# Altium schematic symbol library kmilo17pet-LT_OpAmp_LT1000.SchLib: 2280 symbols (part 24 of 79)
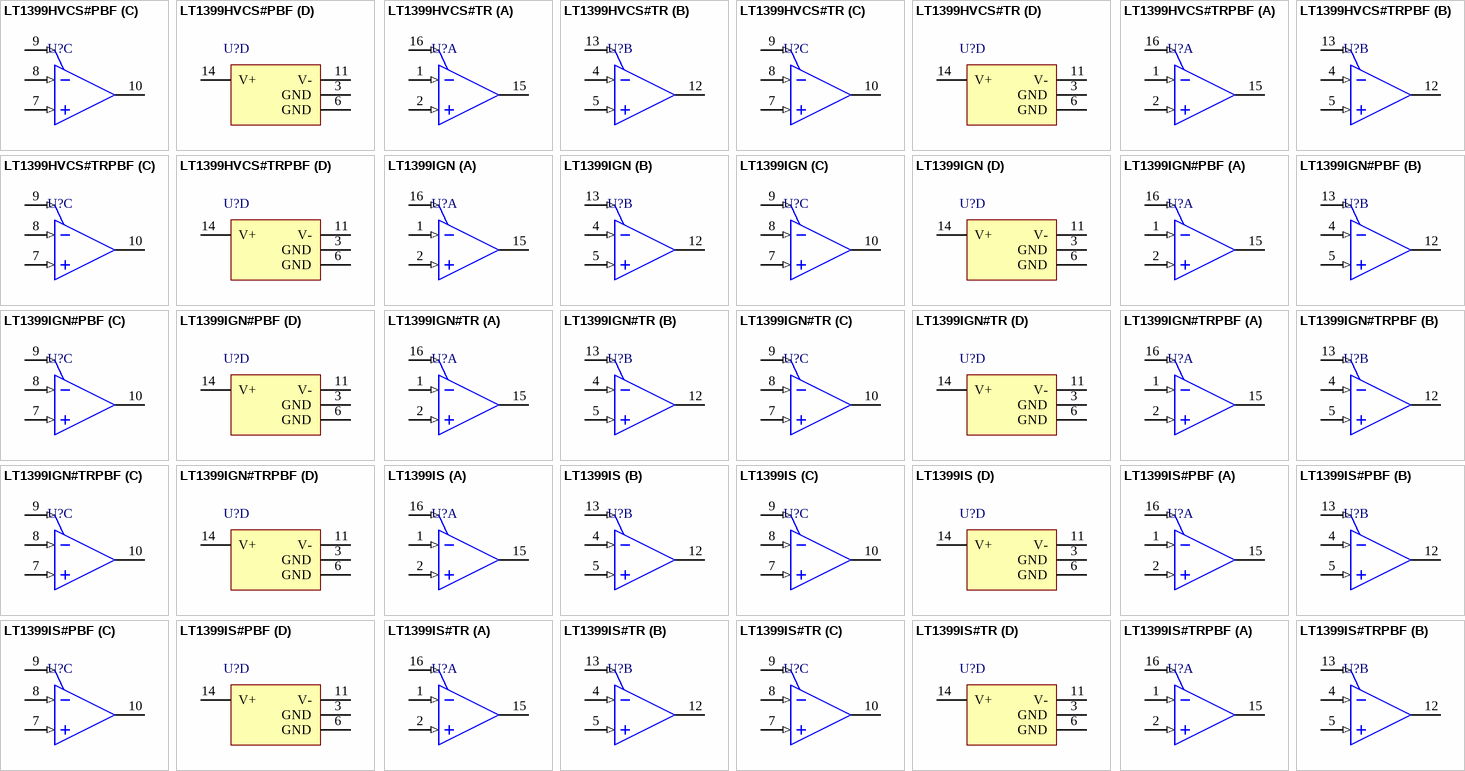
[diagram p128: symbols LT1399HVCS#PBF to LT1399IS#TRPBF]

## LT1399IGN#TRPBF
designator U?
3 Channel, Operational Amplifier, 0.1 dB Gain Flatness to 150 MHz, 300 MHz Typical GBW, 800 V/us Typical SR, 3 to 12.6 V, 16-Pin SOP (GN-16), Industrial, Pb-Free, Reel; Linear Technology Part Number: LT1399; Manufacturer: Linear Technology; PartNumber: LT1399IGN#TRPBF; Channels (#): 3; GBW (MHz) Typical: 300; Is (mA) Typical: 4.6; SR (V/us) Typical: 800; Vos (mV) Typical: 1.5; Vs Max (V): 12.6; DatasheetVersion: Rev. A; PackageVersion: Rev B; PackageReference: LT-GN-16; PackageDescription: 16-Lead Plastic SSOP, Body 4.9 x 3.9 mm, Pitch 0.635 mm; Supplier 1: Digi-Key; Supplier Part Number 1: LT1399IGN#TRPBF-ND; Packing: Reel; RoHS: Pb-Free; Type: CFA; Vs Min (V): 3; Mounting Technology: Surface Mount; ComponentLink1Description: Manufacturer URL; ComponentLink1URL: http://www.linear.com/; ComponentLink2Description: Datasheet; ComponentLink2URL: http://cds.linear.com/docs/en/datasheet/13989fa.pdf; ComponentLink3Description: Package Specification; ComponentLink3URL: http://cds.linear.com/docs/en/packaging/05081641_B_GN16.pdf
footprint LT-GN-16_N (SOP, 16-Leads, Body 4.9x3.9mm, Pitch 0.635mm, IPC Medium Density)
footprint LT-GN-16_L (SOP, 16-Leads, Body 4.9x3.9mm, Pitch 0.635mm, IPC High Density)
footprint LT-GN-16_M (SOP, 16-Leads, Body 4.9x3.9mm, Pitch 0.635mm, IPC Low Density)
part A pins: 1 -IN R (in) "Inverting Input of R Channel Amplifier.", 2 +IN R (in) "Noninverting Input of R Channel Amplifier.", 15 OUT R (hiz) "R Channel Output.", 16 ~{EN} R (in) "R Channel Enable Pin. Logic low to enable."
part B pins: 4 -IN G (in) "Inverting Input of G Channel Amplifier.", 5 +IN G (in) "Noninverting Input of G Channel Amplifier.", 12 OUT G (hiz) "G Channel Output.", 13 ~{EN} G (in) "G Channel Enable Pin. Logic low to enable."
part C pins: 7 +IN B (in) "Noninverting Input of B Channel Amplifier.", 8 -IN B (in) "Inverting Input of B Channel Amplifier.", 9 ~{EN} B (in) "B Channel Enable Pin. Logic low to enable.", 10 OUT B (hiz) "B Channel Output."
part D pins: 3 GND (power) "Ground. Not connected internally.", 6 GND (power) "Ground. Not connected internally.", 11 V- (power) "Negative Supply Voltage, Usually -5V.", 14 V+ (power) "Positive Supply Voltage, Usually 5V."

## LT1399IS
designator U?
3 Channel, Operational Amplifier, 0.1 dB Gain Flatness to 150 MHz, 300 MHz Typical GBW, 800 V/us Typical SR, 3 to 12.6 V, 16-Pin SOIC (S-16), Industrial; Linear Technology Part Number: LT1399; Manufacturer: Linear Technology; PartNumber: LT1399IS; Channels (#): 3; GBW (MHz) Typical: 300; Is (mA) Typical: 4.6; SR (V/us) Typical: 800; Vos (mV) Typical: 1.5; Vs Max (V): 12.6; DatasheetVersion: Rev. A; PackageVersion: Rev G; PackageReference: LT-S-16; PackageDescription: 16-Lead Plastic Small Outline, Body 9.9 x 3.9 mm, Pitch 1.27 mm; Supplier 1: Digi-Key; Supplier Part Number 1: LT1399IS-ND; Type: CFA; Vs Min (V): 3; Mounting Technology: Surface Mount; ComponentLink1Description: Manufacturer URL; ComponentLink1URL: http://www.linear.com/; ComponentLink2Description: Datasheet; ComponentLink2URL: http://cds.linear.com/docs/en/datasheet/13989fa.pdf; ComponentLink3Description: Package Specification; ComponentLink3URL: http://cds.linear.com/docs/en/packaging/S16%2005-08-1610%20Rev%20G.pdf
footprint LT-S-16_N (SOP, 16-Leads, Body 9.9x3.9mm, Pitch 1.27mm, IPC Medium Density)
footprint LT-S-16_L (SOP, 16-Leads, Body 9.9x3.9mm, Pitch 1.27mm, IPC High Density)
footprint LT-S-16_M (SOP, 16-Leads, Body 9.9x3.9mm, Pitch 1.27mm, IPC Low Density)
part A pins: 1 -IN R (in) "Inverting Input of R Channel Amplifier.", 2 +IN R (in) "Noninverting Input of R Channel Amplifier.", 15 OUT R (hiz) "R Channel Output.", 16 ~{EN} R (in) "R Channel Enable Pin. Logic low to enable."
part B pins: 4 -IN G (in) "Inverting Input of G Channel Amplifier.", 5 +IN G (in) "Noninverting Input of G Channel Amplifier.", 12 OUT G (hiz) "G Channel Output.", 13 ~{EN} G (in) "G Channel Enable Pin. Logic low to enable."
part C pins: 7 +IN B (in) "Noninverting Input of B Channel Amplifier.", 8 -IN B (in) "Inverting Input of B Channel Amplifier.", 9 ~{EN} B (in) "B Channel Enable Pin. Logic low to enable.", 10 OUT B (hiz) "B Channel Output."
part D pins: 3 GND (power) "Ground. Not connected internally.", 6 GND (power) "Ground. Not connected internally.", 11 V- (power) "Negative Supply Voltage, Usually -5V.", 14 V+ (power) "Positive Supply Voltage, Usually 5V."

## LT1399IS#PBF
designator U?
3 Channel, Operational Amplifier, 0.1 dB Gain Flatness to 150 MHz, 300 MHz Typical GBW, 800 V/us Typical SR, 3 to 12.6 V, 16-Pin SOIC (S-16), Industrial, Pb-Free; Linear Technology Part Number: LT1399; Manufacturer: Linear Technology; PartNumber: LT1399IS#PBF; Channels (#): 3; GBW (MHz) Typical: 300; Is (mA) Typical: 4.6; SR (V/us) Typical: 800; Vos (mV) Typical: 1.5; Vs Max (V): 12.6; DatasheetVersion: Rev. A; PackageVersion: Rev G; PackageReference: LT-S-16; PackageDescription: 16-Lead Plastic Small Outline, Body 9.9 x 3.9 mm, Pitch 1.27 mm; Supplier 1: Digi-Key; Supplier Part Number 1: LT1399IS#PBF-ND; RoHS: Pb-Free; Type: CFA; Vs Min (V): 3; Mounting Technology: Surface Mount; ComponentLink1Description: Manufacturer URL; ComponentLink1URL: http://www.linear.com/; ComponentLink2Description: Datasheet; ComponentLink2URL: http://cds.linear.com/docs/en/datasheet/13989fa.pdf; ComponentLink3Description: Package Specification; ComponentLink3URL: http://cds.linear.com/docs/en/packaging/S16%2005-08-1610%20Rev%20G.pdf
footprint LT-S-16_N (SOP, 16-Leads, Body 9.9x3.9mm, Pitch 1.27mm, IPC Medium Density)
footprint LT-S-16_L (SOP, 16-Leads, Body 9.9x3.9mm, Pitch 1.27mm, IPC High Density)
footprint LT-S-16_M (SOP, 16-Leads, Body 9.9x3.9mm, Pitch 1.27mm, IPC Low Density)
part A pins: 1 -IN R (in) "Inverting Input of R Channel Amplifier.", 2 +IN R (in) "Noninverting Input of R Channel Amplifier.", 15 OUT R (hiz) "R Channel Output.", 16 ~{EN} R (in) "R Channel Enable Pin. Logic low to enable."
part B pins: 4 -IN G (in) "Inverting Input of G Channel Amplifier.", 5 +IN G (in) "Noninverting Input of G Channel Amplifier.", 12 OUT G (hiz) "G Channel Output.", 13 ~{EN} G (in) "G Channel Enable Pin. Logic low to enable."
part C pins: 7 +IN B (in) "Noninverting Input of B Channel Amplifier.", 8 -IN B (in) "Inverting Input of B Channel Amplifier.", 9 ~{EN} B (in) "B Channel Enable Pin. Logic low to enable.", 10 OUT B (hiz) "B Channel Output."
part D pins: 3 GND (power) "Ground. Not connected internally.", 6 GND (power) "Ground. Not connected internally.", 11 V- (power) "Negative Supply Voltage, Usually -5V.", 14 V+ (power) "Positive Supply Voltage, Usually 5V."

## LT1399IS#TR
designator U?
3 Channel, Operational Amplifier, 0.1 dB Gain Flatness to 150 MHz, 300 MHz Typical GBW, 800 V/us Typical SR, 3 to 12.6 V, 16-Pin SOIC (S-16), Industrial, Reel; Linear Technology Part Number: LT1399; Manufacturer: Linear Technology; PartNumber: LT1399IS#TR; Channels (#): 3; GBW (MHz) Typical: 300; Is (mA) Typical: 4.6; SR (V/us) Typical: 800; Vos (mV) Typical: 1.5; Vs Max (V): 12.6; DatasheetVersion: Rev. A; PackageVersion: Rev G; PackageReference: LT-S-16; PackageDescription: 16-Lead Plastic Small Outline, Body 9.9 x 3.9 mm, Pitch 1.27 mm; Supplier 1: Digi-Key; Supplier Part Number 1: LT1399ISTR-ND; Packing: Reel; Type: CFA; Vs Min (V): 3; Mounting Technology: Surface Mount; ComponentLink1Description: Manufacturer URL; ComponentLink1URL: http://www.linear.com/; ComponentLink2Description: Datasheet; ComponentLink2URL: http://cds.linear.com/docs/en/datasheet/13989fa.pdf; ComponentLink3Description: Package Specification; ComponentLink3URL: http://cds.linear.com/docs/en/packaging/S16%2005-08-1610%20Rev%20G.pdf
footprint LT-S-16_N (SOP, 16-Leads, Body 9.9x3.9mm, Pitch 1.27mm, IPC Medium Density)
footprint LT-S-16_L (SOP, 16-Leads, Body 9.9x3.9mm, Pitch 1.27mm, IPC High Density)
footprint LT-S-16_M (SOP, 16-Leads, Body 9.9x3.9mm, Pitch 1.27mm, IPC Low Density)
part A pins: 1 -IN R (in) "Inverting Input of R Channel Amplifier.", 2 +IN R (in) "Noninverting Input of R Channel Amplifier.", 15 OUT R (hiz) "R Channel Output.", 16 ~{EN} R (in) "R Channel Enable Pin. Logic low to enable."
part B pins: 4 -IN G (in) "Inverting Input of G Channel Amplifier.", 5 +IN G (in) "Noninverting Input of G Channel Amplifier.", 12 OUT G (hiz) "G Channel Output.", 13 ~{EN} G (in) "G Channel Enable Pin. Logic low to enable."
part C pins: 7 +IN B (in) "Noninverting Input of B Channel Amplifier.", 8 -IN B (in) "Inverting Input of B Channel Amplifier.", 9 ~{EN} B (in) "B Channel Enable Pin. Logic low to enable.", 10 OUT B (hiz) "B Channel Output."
part D pins: 3 GND (power) "Ground. Not connected internally.", 6 GND (power) "Ground. Not connected internally.", 11 V- (power) "Negative Supply Voltage, Usually -5V.", 14 V+ (power) "Positive Supply Voltage, Usually 5V."

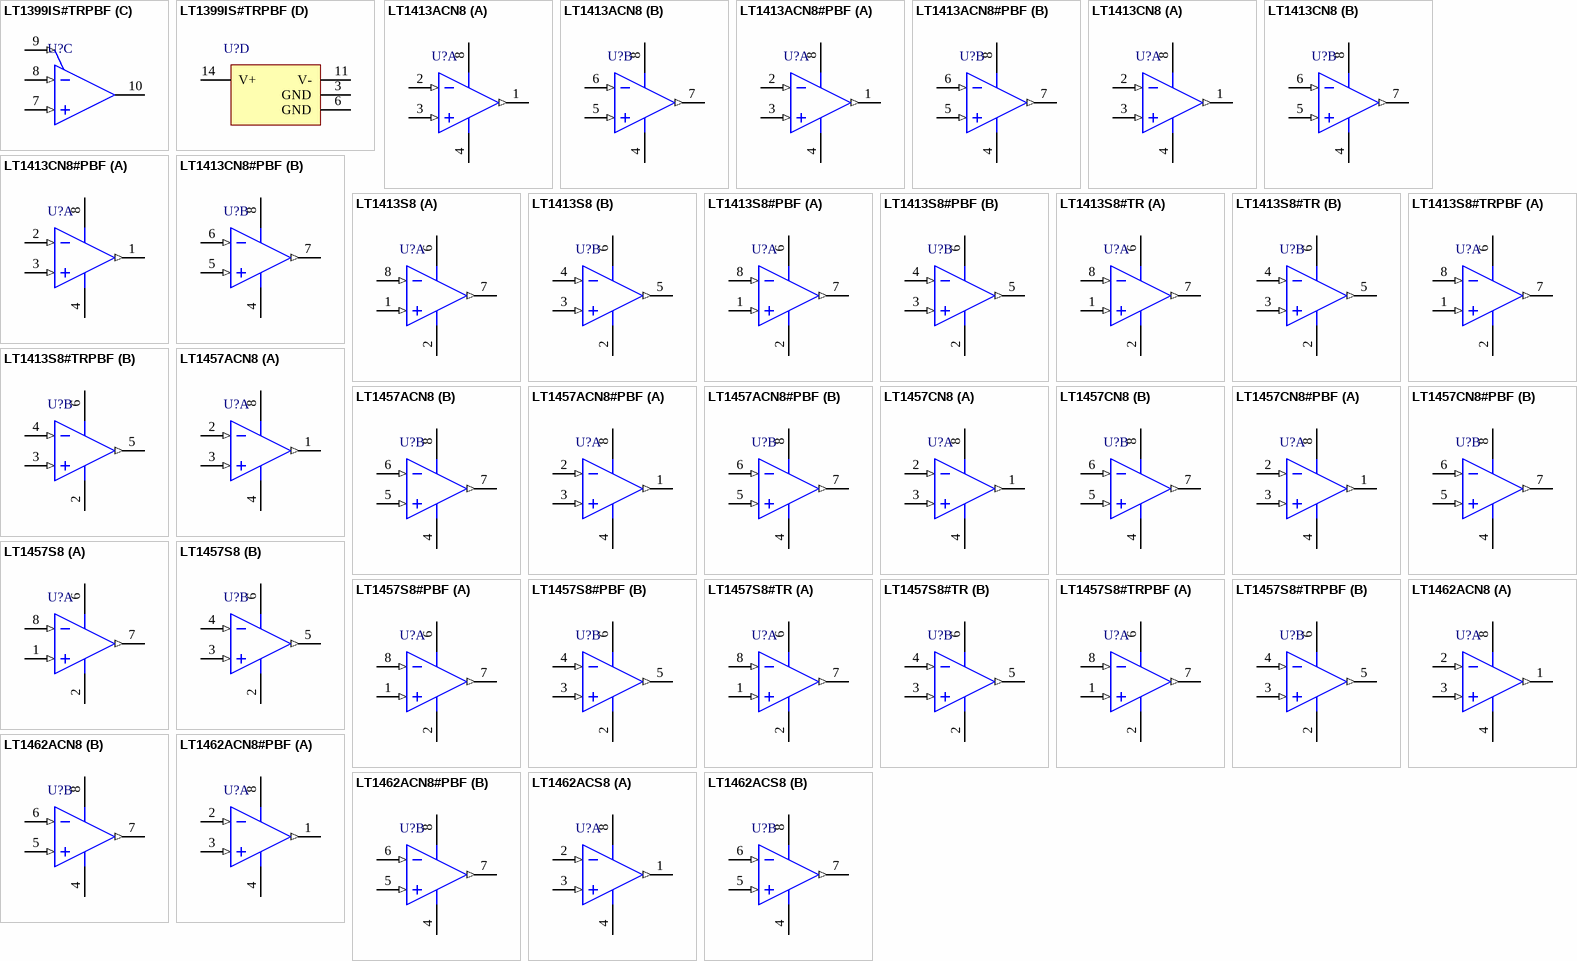
[diagram p38: symbols LT1399IS#TRPBF to LT1462ACS8]

## LT1399IS#TRPBF
designator U?
3 Channel, Operational Amplifier, 0.1 dB Gain Flatness to 150 MHz, 300 MHz Typical GBW, 800 V/us Typical SR, 3 to 12.6 V, 16-Pin SOIC (S-16), Industrial, Pb-Free, Reel; Linear Technology Part Number: LT1399; Manufacturer: Linear Technology; PartNumber: LT1399IS#TRPBF; Channels (#): 3; GBW (MHz) Typical: 300; Is (mA) Typical: 4.6; SR (V/us) Typical: 800; Vos (mV) Typical: 1.5; Vs Max (V): 12.6; DatasheetVersion: Rev. A; PackageVersion: Rev G; PackageReference: LT-S-16; PackageDescription: 16-Lead Plastic Small Outline, Body 9.9 x 3.9 mm, Pitch 1.27 mm; Supplier 1: Digi-Key; Supplier Part Number 1: LT1399IS#TRPBF-ND; Packing: Reel; RoHS: Pb-Free; Type: CFA; Vs Min (V): 3; Mounting Technology: Surface Mount; ComponentLink1Description: Manufacturer URL; ComponentLink1URL: http://www.linear.com/; ComponentLink2Description: Datasheet; ComponentLink2URL: http://cds.linear.com/docs/en/datasheet/13989fa.pdf; ComponentLink3Description: Package Specification; ComponentLink3URL: http://cds.linear.com/docs/en/packaging/S16%2005-08-1610%20Rev%20G.pdf
footprint LT-S-16_N (SOP, 16-Leads, Body 9.9x3.9mm, Pitch 1.27mm, IPC Medium Density)
footprint LT-S-16_L (SOP, 16-Leads, Body 9.9x3.9mm, Pitch 1.27mm, IPC High Density)
footprint LT-S-16_M (SOP, 16-Leads, Body 9.9x3.9mm, Pitch 1.27mm, IPC Low Density)
part A pins: 1 -IN R (in) "Inverting Input of R Channel Amplifier.", 2 +IN R (in) "Noninverting Input of R Channel Amplifier.", 15 OUT R (hiz) "R Channel Output.", 16 ~{EN} R (in) "R Channel Enable Pin. Logic low to enable."
part B pins: 4 -IN G (in) "Inverting Input of G Channel Amplifier.", 5 +IN G (in) "Noninverting Input of G Channel Amplifier.", 12 OUT G (hiz) "G Channel Output.", 13 ~{EN} G (in) "G Channel Enable Pin. Logic low to enable."
part C pins: 7 +IN B (in) "Noninverting Input of B Channel Amplifier.", 8 -IN B (in) "Inverting Input of B Channel Amplifier.", 9 ~{EN} B (in) "B Channel Enable Pin. Logic low to enable.", 10 OUT B (hiz) "B Channel Output."
part D pins: 3 GND (power) "Ground. Not connected internally.", 6 GND (power) "Ground. Not connected internally.", 11 V- (power) "Negative Supply Voltage, Usually -5V.", 14 V+ (power) "Positive Supply Voltage, Usually 5V."

## LT1413ACN8
designator U?
Dual Channel, Precision Single Supply Operational Amplifier, 0.95 MHz Typical GBW, 0.3 V/us Typical SR, 3 to 22 V, 8-Pin DIP (N8-8), Commercial; Linear Technology Part Number: LT1413; Manufacturer: Linear Technology; PartNumber: LT1413ACN8; Channels (#): 2; GBW (MHz) Typical: 0.95; Is (mA) Typical: 0.33; SR (V/us) Typical: 0.3; Vos (mV) Typical: 0.05; Vs Max (V): 22; Vs Min (V): 3; DatasheetVersion: Rev. 0; PackageVersion: Rev I; PackageReference: LT-N8-8; PackageDescription: 8-Lead PDIP, Body 10.16 x 6.48 mm, Pitch 2.54 mm; Supplier 1: Digi-Key; Supplier Part Number 1: LT1413ACN8-ND; Type: VFB; Mounting Technology: Surface Mount; ComponentLink1Description: Manufacturer URL; ComponentLink1URL: http://www.linear.com/; ComponentLink2Description: Datasheet; ComponentLink2URL: http://cds.linear.com/docs/en/datasheet/lt1413.pdf; ComponentLink3Description: Package Specification; ComponentLink3URL: http://cds.linear.com/docs/en/packaging/05081510_I_N8.pdf
footprint LT-N8-8 (DIP, 8-Leads, Body 10.16x6.48mm, Pitch 2.54mm)
pins on every part: 4 V- (power), 8 V+ (power)
part A pins: 1 OUT A (out), 2 -IN A (in), 3 +IN A (in)
part B pins: 5 +IN B (in), 6 -IN B (in), 7 OUT B (out)

## LT1413ACN8#PBF
designator U?
Dual Channel, Precision Single Supply Operational Amplifier, 0.95 MHz Typical GBW, 0.3 V/us Typical SR, 3 to 22 V, 8-Pin DIP (N8-8), Commercial, Pb-Free; Linear Technology Part Number: LT1413; Manufacturer: Linear Technology; PartNumber: LT1413ACN8#PBF; Channels (#): 2; GBW (MHz) Typical: 0.95; Is (mA) Typical: 0.33; SR (V/us) Typical: 0.3; Vos (mV) Typical: 0.05; Vs Max (V): 22; Vs Min (V): 3; DatasheetVersion: Rev. 0; PackageVersion: Rev I; PackageReference: LT-N8-8; PackageDescription: 8-Lead PDIP, Body 10.16 x 6.48 mm, Pitch 2.54 mm; Supplier 1: Digi-Key; Supplier Part Number 1: LT1413ACN8#PBF-ND; RoHS: Pb-Free; Type: VFB; Mounting Technology: Through Hole; ComponentLink1Description: Manufacturer URL; ComponentLink1URL: http://www.linear.com/; ComponentLink2Description: Datasheet; ComponentLink2URL: http://cds.linear.com/docs/en/datasheet/lt1413.pdf; ComponentLink3Description: Package Specification; ComponentLink3URL: http://cds.linear.com/docs/en/packaging/05081510_I_N8.pdf
footprint LT-N8-8 (DIP, 8-Leads, Body 10.16x6.48mm, Pitch 2.54mm)
pins on every part: 4 V- (power), 8 V+ (power)
part A pins: 1 OUT A (out), 2 -IN A (in), 3 +IN A (in)
part B pins: 5 +IN B (in), 6 -IN B (in), 7 OUT B (out)

## LT1413CN8
designator U?
Dual Channel, Precision Single Supply Operational Amplifier, 0.95 MHz Typical GBW, 0.3 V/us Typical SR, 3 to 22 V, 8-Pin DIP (N8-8), Commercial; Linear Technology Part Number: LT1413; Manufacturer: Linear Technology; PartNumber: LT1413CN8; Channels (#): 2; GBW (MHz) Typical: 0.95; Is (mA) Typical: 0.33; SR (V/us) Typical: 0.3; Vos (mV) Typical: 0.05; Vs Max (V): 22; Vs Min (V): 3; DatasheetVersion: Rev. 0; PackageVersion: Rev I; PackageReference: LT-N8-8; PackageDescription: 8-Lead PDIP, Body 10.16 x 6.48 mm, Pitch 2.54 mm; Supplier 1: Digi-Key; Supplier Part Number 1: LT1413CN8-ND; Type: VFB; Mounting Technology: Through Hole; ComponentLink1Description: Manufacturer URL; ComponentLink1URL: http://www.linear.com/; ComponentLink2Description: Datasheet; ComponentLink2URL: http://cds.linear.com/docs/en/datasheet/lt1413.pdf; ComponentLink3Description: Package Specification; ComponentLink3URL: http://cds.linear.com/docs/en/packaging/05081510_I_N8.pdf
footprint LT-N8-8 (DIP, 8-Leads, Body 10.16x6.48mm, Pitch 2.54mm)
pins on every part: 4 V- (power), 8 V+ (power)
part A pins: 1 OUT A (out), 2 -IN A (in), 3 +IN A (in)
part B pins: 5 +IN B (in), 6 -IN B (in), 7 OUT B (out)

## LT1413CN8#PBF
designator U?
Dual Channel, Precision Single Supply Operational Amplifier, 0.95 MHz Typical GBW, 0.3 V/us Typical SR, 3 to 22 V, 8-Pin DIP (N8-8), Commercial, Pb-Free; Linear Technology Part Number: LT1413; Manufacturer: Linear Technology; PartNumber: LT1413CN8#PBF; Channels (#): 2; GBW (MHz) Typical: 0.95; Is (mA) Typical: 0.33; SR (V/us) Typical: 0.3; Vos (mV) Typical: 0.05; Vs Max (V): 22; Vs Min (V): 3; DatasheetVersion: Rev. 0; PackageVersion: Rev I; PackageReference: LT-N8-8; PackageDescription: 8-Lead PDIP, Body 10.16 x 6.48 mm, Pitch 2.54 mm; Supplier 1: Digi-Key; Supplier Part Number 1: LT1413CN8#PBF-ND; Supplier 2: Farnell; Supplier Part Number 2: 2252102; Supplier 3: Newark; Supplier Part Number 3: 57M3931; RoHS: Pb-Free; Type: VFB; Mounting Technology: Through Hole; ComponentLink1Description: Manufacturer URL; ComponentLink1URL: http://www.linear.com/; ComponentLink2Description: Datasheet; ComponentLink2URL: http://cds.linear.com/docs/en/datasheet/lt1413.pdf; ComponentLink3Description: Package Specification; ComponentLink3URL: http://cds.linear.com/docs/en/packaging/05081510_I_N8.pdf
footprint LT-N8-8 (DIP, 8-Leads, Body 10.16x6.48mm, Pitch 2.54mm)
pins on every part: 4 V- (power), 8 V+ (power)
part A pins: 1 OUT A (out), 2 -IN A (in), 3 +IN A (in)
part B pins: 5 +IN B (in), 6 -IN B (in), 7 OUT B (out)

## LT1413S8
designator U?
Dual Channel, Precision Single Supply Operational Amplifier, 0.95 MHz Typical GBW, 0.3 V/us Typical SR, 3 to 22 V, 8-Pin SOIC (S8-8), Commercial; Linear Technology Part Number: LT1413; Manufacturer: Linear Technology; PartNumber: LT1413S8; Channels (#): 2; GBW (MHz) Typical: 0.95; Is (mA) Typical: 0.33; SR (V/us) Typical: 0.3; Vos (mV) Typical: 0.05; Vs Max (V): 22; Vs Min (V): 3; DatasheetVersion: Rev. 0; PackageVersion: Rev G; PackageReference: LT-S8-8; PackageDescription: 8-Pin Plastic Small Outline, Body 4.9 x 3.9 mm, Pitch 1.27 mm; Supplier 1: Digi-Key; Supplier Part Number 1: LT1413S8-ND; Supplier 2: Newark; Supplier Part Number 2: 57M3932; Type: VFB; Mounting Technology: Surface Mount; ComponentLink1Description: Manufacturer URL; ComponentLink1URL: http://www.linear.com/; ComponentLink2Description: Datasheet; ComponentLink2URL: http://cds.linear.com/docs/en/datasheet/lt1413.pdf; ComponentLink3Description: Package Specification; ComponentLink3URL: http://cds.linear.com/docs/en/packaging/05081610_G_SO8.pdf
footprint LT-S8-8_N (SOIC, 8-Leads, Body 4.9x3.9mm, Pitch 1.27mm, IPC Medium Density)
footprint LT-S8-8_L (SOIC, 8-Leads, Body 4.9x3.9mm, Pitch 1.27mm, IPC High Density)
footprint LT-S8-8_M (SOIC, 8-Leads, Body 4.9x3.9mm, Pitch 1.27mm, IPC Low Density)
pins on every part: 2 V- (power), 6 V+ (power)
part A pins: 1 +IN A (in), 7 OUT A (out), 8 -IN A (in)
part B pins: 3 +IN B (in), 4 -IN B (in), 5 OUT B (out)

## LT1413S8#PBF
designator U?
Dual Channel, Precision Single Supply Operational Amplifier, 0.95 MHz Typical GBW, 0.3 V/us Typical SR, 3 to 22 V, 8-Pin SOIC (S8-8), Commercial, Pb-Free; Linear Technology Part Number: LT1413; Manufacturer: Linear Technology; PartNumber: LT1413S8#PBF; Channels (#): 2; GBW (MHz) Typical: 0.95; Is (mA) Typical: 0.33; SR (V/us) Typical: 0.3; Vos (mV) Typical: 0.05; Vs Max (V): 22; Vs Min (V): 3; DatasheetVersion: Rev. 0; PackageVersion: Rev G; PackageReference: LT-S8-8; PackageDescription: 8-Pin Plastic Small Outline, Body 4.9 x 3.9 mm, Pitch 1.27 mm; Supplier 1: Digi-Key; Supplier Part Number 1: LT1413S8#PBF-ND; Supplier 2: Farnell; Supplier Part Number 2: 1330653; Supplier 3: Newark; Supplier Part Number 3: 57M3933; RoHS: Pb-Free; Type: VFB; Mounting Technology: Surface Mount; ComponentLink1Description: Manufacturer URL; ComponentLink1URL: http://www.linear.com/; ComponentLink2Description: Datasheet; ComponentLink2URL: http://cds.linear.com/docs/en/datasheet/lt1413.pdf; ComponentLink3Description: Package Specification; ComponentLink3URL: http://cds.linear.com/docs/en/packaging/05081610_G_SO8.pdf
footprint LT-S8-8_N (SOIC, 8-Leads, Body 4.9x3.9mm, Pitch 1.27mm, IPC Medium Density)
footprint LT-S8-8_L (SOIC, 8-Leads, Body 4.9x3.9mm, Pitch 1.27mm, IPC High Density)
footprint LT-S8-8_M (SOIC, 8-Leads, Body 4.9x3.9mm, Pitch 1.27mm, IPC Low Density)
pins on every part: 2 V- (power), 6 V+ (power)
part A pins: 1 +IN A (in), 7 OUT A (out), 8 -IN A (in)
part B pins: 3 +IN B (in), 4 -IN B (in), 5 OUT B (out)

## LT1413S8#TR
designator U?
Dual Channel, Precision Single Supply Operational Amplifier, 0.95 MHz Typical GBW, 0.3 V/us Typical SR, 3 to 22 V, 8-Pin SOIC (S8-8), Commercial, Reel; Linear Technology Part Number: LT1413; Manufacturer: Linear Technology; PartNumber: LT1413S8#TR; Channels (#): 2; GBW (MHz) Typical: 0.95; Is (mA) Typical: 0.33; SR (V/us) Typical: 0.3; Vos (mV) Typical: 0.05; Vs Max (V): 22; Vs Min (V): 3; DatasheetVersion: Rev. 0; PackageVersion: Rev G; PackageReference: LT-S8-8; PackageDescription: 8-Pin Plastic Small Outline, Body 4.9 x 3.9 mm, Pitch 1.27 mm; Supplier 1: Digi-Key; Supplier Part Number 1: LT1413S8#TR-ND; Supplier 2: Newark; Supplier Part Number 2: 57M3934; Packing: Reel; Type: VFB; Mounting Technology: Surface Mount; ComponentLink1Description: Manufacturer URL; ComponentLink1URL: http://www.linear.com/; ComponentLink2Description: Datasheet; ComponentLink2URL: http://cds.linear.com/docs/en/datasheet/lt1413.pdf; ComponentLink3Description: Package Specification; ComponentLink3URL: http://cds.linear.com/docs/en/packaging/05081610_G_SO8.pdf
footprint LT-S8-8_N (SOIC, 8-Leads, Body 4.9x3.9mm, Pitch 1.27mm, IPC Medium Density)
footprint LT-S8-8_L (SOIC, 8-Leads, Body 4.9x3.9mm, Pitch 1.27mm, IPC High Density)
footprint LT-S8-8_M (SOIC, 8-Leads, Body 4.9x3.9mm, Pitch 1.27mm, IPC Low Density)
pins on every part: 2 V- (power), 6 V+ (power)
part A pins: 1 +IN A (in), 7 OUT A (out), 8 -IN A (in)
part B pins: 3 +IN B (in), 4 -IN B (in), 5 OUT B (out)

## LT1413S8#TRPBF
designator U?
Dual Channel, Precision Single Supply Operational Amplifier, 0.95 MHz Typical GBW, 0.3 V/us Typical SR, 3 to 22 V, 8-Pin SOIC (S8-8), Commercial, Pb-Free, Reel; Linear Technology Part Number: LT1413; Manufacturer: Linear Technology; PartNumber: LT1413S8#TRPBF; Channels (#): 2; GBW (MHz) Typical: 0.95; Is (mA) Typical: 0.33; SR (V/us) Typical: 0.3; Vos (mV) Typical: 0.05; Vs Max (V): 22; Vs Min (V): 3; DatasheetVersion: Rev. 0; PackageVersion: Rev G; PackageReference: LT-S8-8; PackageDescription: 8-Pin Plastic Small Outline, Body 4.9 x 3.9 mm, Pitch 1.27 mm; Supplier 1: Digi-Key; Supplier Part Number 1: LT1413S8#TRPBF-ND; Supplier 2: Newark; Supplier Part Number 2: 57M3935; Packing: Reel; RoHS: Pb-Free; Type: VFB; Mounting Technology: Surface Mount; ComponentLink1Description: Manufacturer URL; ComponentLink1URL: http://www.linear.com/; ComponentLink2Description: Datasheet; ComponentLink2URL: http://cds.linear.com/docs/en/datasheet/lt1413.pdf; ComponentLink3Description: Package Specification; ComponentLink3URL: http://cds.linear.com/docs/en/packaging/05081610_G_SO8.pdf
footprint LT-S8-8_N (SOIC, 8-Leads, Body 4.9x3.9mm, Pitch 1.27mm, IPC Medium Density)
footprint LT-S8-8_L (SOIC, 8-Leads, Body 4.9x3.9mm, Pitch 1.27mm, IPC High Density)
footprint LT-S8-8_M (SOIC, 8-Leads, Body 4.9x3.9mm, Pitch 1.27mm, IPC Low Density)
pins on every part: 2 V- (power), 6 V+ (power)
part A pins: 1 +IN A (in), 7 OUT A (out), 8 -IN A (in)
part B pins: 3 +IN B (in), 4 -IN B (in), 5 OUT B (out)

## LT1457ACN8
designator U?
Dual Channel, Precision JFET Input Operational Amplifier, 1 MHz Typical GBW, 4 V/us Typical SR, 9 to 40 V, 8-Pin DIP (N8-8), Commercial; Linear Technology Part Number: LT1457; Manufacturer: Linear Technology; PartNumber: LT1457ACN8; Channels (#): 2; GBW (MHz) Typical: 1; Is (mA) Typical: 1.8; SR (V/us) Typical: 4; Vos (mV) Typical: 0.15; Vs Max (V): 40; Vs Min (V): 9; PackageVersion: Rev I; PackageReference: LT-N8-8; PackageDescription: 8-Lead PDIP, Body 10.16 x 6.48 mm, Pitch 2.54 mm; Supplier 1: Digi-Key; Supplier Part Number 1: LT1457ACN8-ND; Supplier 2: Newark; Supplier Part Number 2: 57M3988; Type: JFET; Mounting Technology: Surface Mount; ComponentLink1Description: Manufacturer URL; ComponentLink1URL: http://www.linear.com/; ComponentLink2Description: Datasheet; ComponentLink2URL: http://cds.linear.com/docs/en/datasheet/lt1457.pdf; ComponentLink3Description: Package Specification; ComponentLink3URL: http://cds.linear.com/docs/en/packaging/05081510_I_N8.pdf
footprint LT-N8-8 (DIP, 8-Leads, Body 10.16x6.48mm, Pitch 2.54mm)
pins on every part: 4 V- (power), 8 V+ (power)
part A pins: 1 OUT A (out), 2 -IN A (in), 3 +IN A (in)
part B pins: 5 +IN B (in), 6 -IN B (in), 7 OUT B (out)

## LT1457ACN8#PBF
designator U?
Dual Channel, Precision JFET Input Operational Amplifier, 1 MHz Typical GBW, 4 V/us Typical SR, 9 to 40 V, 8-Pin DIP (N8-8), Commercial, Pb-Free; Linear Technology Part Number: LT1457; Manufacturer: Linear Technology; PartNumber: LT1457ACN8#PBF; Channels (#): 2; GBW (MHz) Typical: 1; Is (mA) Typical: 1.8; SR (V/us) Typical: 4; Vos (mV) Typical: 0.15; Vs Max (V): 40; Vs Min (V): 9; PackageVersion: Rev I; PackageReference: LT-N8-8; PackageDescription: 8-Lead PDIP, Body 10.16 x 6.48 mm, Pitch 2.54 mm; Supplier 1: Digi-Key; Supplier Part Number 1: LT1457ACN8#PBF-ND; Supplier 2: Newark; Supplier Part Number 2: 57M3989; RoHS: Pb-Free; Type: JFET; Mounting Technology: Through Hole; ComponentLink1Description: Manufacturer URL; ComponentLink1URL: http://www.linear.com/; ComponentLink2Description: Datasheet; ComponentLink2URL: http://cds.linear.com/docs/en/datasheet/lt1457.pdf; ComponentLink3Description: Package Specification; ComponentLink3URL: http://cds.linear.com/docs/en/packaging/05081510_I_N8.pdf
footprint LT-N8-8 (DIP, 8-Leads, Body 10.16x6.48mm, Pitch 2.54mm)
pins on every part: 4 V- (power), 8 V+ (power)
part A pins: 1 OUT A (out), 2 -IN A (in), 3 +IN A (in)
part B pins: 5 +IN B (in), 6 -IN B (in), 7 OUT B (out)

## LT1457CN8
designator U?
Dual Channel, Precision JFET Input Operational Amplifier, 1 MHz Typical GBW, 4 V/us Typical SR, 9 to 40 V, 8-Pin DIP (N8-8), Commercial; Linear Technology Part Number: LT1457; Manufacturer: Linear Technology; PartNumber: LT1457CN8; Channels (#): 2; GBW (MHz) Typical: 1; Is (mA) Typical: 1.8; SR (V/us) Typical: 4; Vos (mV) Typical: 0.15; Vs Max (V): 40; Vs Min (V): 9; PackageVersion: Rev I; PackageReference: LT-N8-8; PackageDescription: 8-Lead PDIP, Body 10.16 x 6.48 mm, Pitch 2.54 mm; Supplier 1: Digi-Key; Supplier Part Number 1: LT1457CN8-ND; Type: JFET; Mounting Technology: Through Hole; ComponentLink1Description: Manufacturer URL; ComponentLink1URL: http://www.linear.com/; ComponentLink2Description: Datasheet; ComponentLink2URL: http://cds.linear.com/docs/en/datasheet/lt1457.pdf; ComponentLink3Description: Package Specification; ComponentLink3URL: http://cds.linear.com/docs/en/packaging/05081510_I_N8.pdf
footprint LT-N8-8 (DIP, 8-Leads, Body 10.16x6.48mm, Pitch 2.54mm)
pins on every part: 4 V- (power), 8 V+ (power)
part A pins: 1 OUT A (out), 2 -IN A (in), 3 +IN A (in)
part B pins: 5 +IN B (in), 6 -IN B (in), 7 OUT B (out)

## LT1457CN8#PBF
designator U?
Dual Channel, Precision JFET Input Operational Amplifier, 1 MHz Typical GBW, 4 V/us Typical SR, 9 to 40 V, 8-Pin DIP (N8-8), Commercial, Pb-Free; Linear Technology Part Number: LT1457; Manufacturer: Linear Technology; PartNumber: LT1457CN8#PBF; Channels (#): 2; GBW (MHz) Typical: 1; Is (mA) Typical: 1.8; SR (V/us) Typical: 4; Vos (mV) Typical: 0.15; Vs Max (V): 40; Vs Min (V): 9; PackageVersion: Rev I; PackageReference: LT-N8-8; PackageDescription: 8-Lead PDIP, Body 10.16 x 6.48 mm, Pitch 2.54 mm; Supplier 1: Digi-Key; Supplier Part Number 1: LT1457CN8#PBF-ND; RoHS: Pb-Free; Type: JFET; Mounting Technology: Through Hole; ComponentLink1Description: Manufacturer URL; ComponentLink1URL: http://www.linear.com/; ComponentLink2Description: Datasheet; ComponentLink2URL: http://cds.linear.com/docs/en/datasheet/lt1457.pdf; ComponentLink3Description: Package Specification; ComponentLink3URL: http://cds.linear.com/docs/en/packaging/05081510_I_N8.pdf
footprint LT-N8-8 (DIP, 8-Leads, Body 10.16x6.48mm, Pitch 2.54mm)
pins on every part: 4 V- (power), 8 V+ (power)
part A pins: 1 OUT A (out), 2 -IN A (in), 3 +IN A (in)
part B pins: 5 +IN B (in), 6 -IN B (in), 7 OUT B (out)

## LT1457S8
designator U?
Dual Channel, Precision JFET Input Operational Amplifier, 1 MHz Typical GBW, 4 V/us Typical SR, 9 to 40 V, 8-Pin SOIC (S8-8), Commercial; Linear Technology Part Number: LT1457; Manufacturer: Linear Technology; PartNumber: LT1457S8; Channels (#): 2; GBW (MHz) Typical: 1; Is (mA) Typical: 1.8; SR (V/us) Typical: 4; Vos (mV) Typical: 0.15; Vs Max (V): 40; Vs Min (V): 9; PackageVersion: Rev G; PackageReference: LT-S8-8; PackageDescription: 8-Pin Plastic Small Outline, Body 4.9 x 3.9 mm, Pitch 1.27 mm; Supplier 1: Digi-Key; Supplier Part Number 1: LT1457S8-ND; Type: JFET; Mounting Technology: Surface Mount; ComponentLink1Description: Manufacturer URL; ComponentLink1URL: http://www.linear.com/; ComponentLink2Description: Datasheet; ComponentLink2URL: http://cds.linear.com/docs/en/datasheet/lt1457.pdf; ComponentLink3Description: Package Specification; ComponentLink3URL: http://cds.linear.com/docs/en/packaging/05081610_G_SO8.pdf
footprint LT-S8-8_N (SOIC, 8-Leads, Body 4.9x3.9mm, Pitch 1.27mm, IPC Medium Density)
footprint LT-S8-8_L (SOIC, 8-Leads, Body 4.9x3.9mm, Pitch 1.27mm, IPC High Density)
footprint LT-S8-8_M (SOIC, 8-Leads, Body 4.9x3.9mm, Pitch 1.27mm, IPC Low Density)
pins on every part: 2 V- (power), 6 V+ (power)
part A pins: 1 +IN A (in), 7 OUT A (out), 8 -IN A (in)
part B pins: 3 +IN B (in), 4 -IN B (in), 5 OUT B (out)

## LT1457S8#PBF
designator U?
Dual Channel, Precision JFET Input Operational Amplifier, 1 MHz Typical GBW, 4 V/us Typical SR, 9 to 40 V, 8-Pin SOIC (S8-8), Commercial, Pb-Free; Linear Technology Part Number: LT1457; Manufacturer: Linear Technology; PartNumber: LT1457S8#PBF; Channels (#): 2; GBW (MHz) Typical: 1; Is (mA) Typical: 1.8; SR (V/us) Typical: 4; Vos (mV) Typical: 0.15; Vs Max (V): 40; Vs Min (V): 9; PackageVersion: Rev G; PackageReference: LT-S8-8; PackageDescription: 8-Pin Plastic Small Outline, Body 4.9 x 3.9 mm, Pitch 1.27 mm; Supplier 1: Digi-Key; Supplier Part Number 1: LT1457S8#PBF-ND; Supplier 2: Farnell; Supplier Part Number 2: 1330654; Supplier 3: Newark; Supplier Part Number 3: 57M3993; RoHS: Pb-Free; Type: JFET; Mounting Technology: Surface Mount; ComponentLink1Description: Manufacturer URL; ComponentLink1URL: http://www.linear.com/; ComponentLink2Description: Datasheet; ComponentLink2URL: http://cds.linear.com/docs/en/datasheet/lt1457.pdf; ComponentLink3Description: Package Specification; ComponentLink3URL: http://cds.linear.com/docs/en/packaging/05081610_G_SO8.pdf
footprint LT-S8-8_N (SOIC, 8-Leads, Body 4.9x3.9mm, Pitch 1.27mm, IPC Medium Density)
footprint LT-S8-8_L (SOIC, 8-Leads, Body 4.9x3.9mm, Pitch 1.27mm, IPC High Density)
footprint LT-S8-8_M (SOIC, 8-Leads, Body 4.9x3.9mm, Pitch 1.27mm, IPC Low Density)
pins on every part: 2 V- (power), 6 V+ (power)
part A pins: 1 +IN A (in), 7 OUT A (out), 8 -IN A (in)
part B pins: 3 +IN B (in), 4 -IN B (in), 5 OUT B (out)

## LT1457S8#TR
designator U?
Dual Channel, Precision JFET Input Operational Amplifier, 1 MHz Typical GBW, 4 V/us Typical SR, 9 to 40 V, 8-Pin SOIC (S8-8), Commercial, Reel; Linear Technology Part Number: LT1457; Manufacturer: Linear Technology; PartNumber: LT1457S8#TR; Channels (#): 2; GBW (MHz) Typical: 1; Is (mA) Typical: 1.8; SR (V/us) Typical: 4; Vos (mV) Typical: 0.15; Vs Max (V): 40; Vs Min (V): 9; PackageVersion: Rev G; PackageReference: LT-S8-8; PackageDescription: 8-Pin Plastic Small Outline, Body 4.9 x 3.9 mm, Pitch 1.27 mm; Supplier 1: Digi-Key; Supplier Part Number 1: LT1457S8#TR-ND; Packing: Reel; Type: JFET; Mounting Technology: Surface Mount; ComponentLink1Description: Manufacturer URL; ComponentLink1URL: http://www.linear.com/; ComponentLink2Description: Datasheet; ComponentLink2URL: http://cds.linear.com/docs/en/datasheet/lt1457.pdf; ComponentLink3Description: Package Specification; ComponentLink3URL: http://cds.linear.com/docs/en/packaging/05081610_G_SO8.pdf
footprint LT-S8-8_N (SOIC, 8-Leads, Body 4.9x3.9mm, Pitch 1.27mm, IPC Medium Density)
footprint LT-S8-8_L (SOIC, 8-Leads, Body 4.9x3.9mm, Pitch 1.27mm, IPC High Density)
footprint LT-S8-8_M (SOIC, 8-Leads, Body 4.9x3.9mm, Pitch 1.27mm, IPC Low Density)
pins on every part: 2 V- (power), 6 V+ (power)
part A pins: 1 +IN A (in), 7 OUT A (out), 8 -IN A (in)
part B pins: 3 +IN B (in), 4 -IN B (in), 5 OUT B (out)

## LT1457S8#TRPBF
designator U?
Dual Channel, Precision JFET Input Operational Amplifier, 1 MHz Typical GBW, 4 V/us Typical SR, 9 to 40 V, 8-Pin SOIC (S8-8), Commercial, Pb-Free, Reel; Linear Technology Part Number: LT1457; Manufacturer: Linear Technology; PartNumber: LT1457S8#TRPBF; Channels (#): 2; GBW (MHz) Typical: 1; Is (mA) Typical: 1.8; SR (V/us) Typical: 4; Vos (mV) Typical: 0.15; Vs Max (V): 40; Vs Min (V): 9; PackageVersion: Rev G; PackageReference: LT-S8-8; PackageDescription: 8-Pin Plastic Small Outline, Body 4.9 x 3.9 mm, Pitch 1.27 mm; Supplier 1: Digi-Key; Supplier Part Number 1: LT1457S8#TRPBF-ND; Packing: Reel; RoHS: Pb-Free; Type: JFET; Mounting Technology: Surface Mount; ComponentLink1Description: Manufacturer URL; ComponentLink1URL: http://www.linear.com/; ComponentLink2Description: Datasheet; ComponentLink2URL: http://cds.linear.com/docs/en/datasheet/lt1457.pdf; ComponentLink3Description: Package Specification; ComponentLink3URL: http://cds.linear.com/docs/en/packaging/05081610_G_SO8.pdf
footprint LT-S8-8_N (SOIC, 8-Leads, Body 4.9x3.9mm, Pitch 1.27mm, IPC Medium Density)
footprint LT-S8-8_L (SOIC, 8-Leads, Body 4.9x3.9mm, Pitch 1.27mm, IPC High Density)
footprint LT-S8-8_M (SOIC, 8-Leads, Body 4.9x3.9mm, Pitch 1.27mm, IPC Low Density)
pins on every part: 2 V- (power), 6 V+ (power)
part A pins: 1 +IN A (in), 7 OUT A (out), 8 -IN A (in)
part B pins: 3 +IN B (in), 4 -IN B (in), 5 OUT B (out)

## LT1462ACN8
designator U?
Dual Channel, JFET Operational Amplifier with Excellent C-Load Stability, 0.175 MHz Typical GBW, 0.13 V/us Typical SR, 10 to 40 V, 8-Pin DIP (N8-8), Commercial; Linear Technology Part Number: LT1462; Manufacturer: Linear Technology; PartNumber: LT1462ACN8; Channels (#): 2; GBW (MHz) Typical: 0.175; Is (mA) Typical: 0.028; SR (V/us) Typical: 0.13; Vos (mV) Typical: 0.4; Vs Max (V): 40; Vs Min (V): 10; DatasheetVersion: Rev. A; PackageVersion: Rev I; PackageReference: LT-N8-8; PackageDescription: 8-Lead PDIP, Body 10.16 x 6.48 mm, Pitch 2.54 mm; Supplier 1: Digi-Key; Supplier Part Number 1: LT1462ACN8-ND; Type: JFET; Mounting Technology: Surface Mount; ComponentLink1Description: Manufacturer URL; ComponentLink1URL: http://www.linear.com/; ComponentLink2Description: Datasheet; ComponentLink2URL: http://cds.linear.com/docs/en/datasheet/146263f.pdf; ComponentLink3Description: Package Specification; ComponentLink3URL: http://cds.linear.com/docs/en/packaging/05081510_I_N8.pdf
footprint LT-N8-8 (DIP, 8-Leads, Body 10.16x6.48mm, Pitch 2.54mm)
pins on every part: 4 V- (power), 8 V+ (power)
part A pins: 1 OUT A (out), 2 -IN A (in), 3 +IN A (in)
part B pins: 5 +IN B (in), 6 -IN B (in), 7 OUT B (out)

## LT1462ACN8#PBF
designator U?
Dual Channel, JFET Operational Amplifier with Excellent C-Load Stability, 0.175 MHz Typical GBW, 0.13 V/us Typical SR, 10 to 40 V, 8-Pin DIP (N8-8), Commercial, Pb-Free; Linear Technology Part Number: LT1462; Manufacturer: Linear Technology; PartNumber: LT1462ACN8#PBF; Channels (#): 2; GBW (MHz) Typical: 0.175; Is (mA) Typical: 0.028; SR (V/us) Typical: 0.13; Vos (mV) Typical: 0.4; Vs Max (V): 40; Vs Min (V): 10; DatasheetVersion: Rev. A; PackageVersion: Rev I; PackageReference: LT-N8-8; PackageDescription: 8-Lead PDIP, Body 10.16 x 6.48 mm, Pitch 2.54 mm; Supplier 1: Digi-Key; Supplier Part Number 1: LT1462ACN8#PBF-ND; RoHS: Pb-Free; Type: JFET; Mounting Technology: Through Hole; ComponentLink1Description: Manufacturer URL; ComponentLink1URL: http://www.linear.com/; ComponentLink2Description: Datasheet; ComponentLink2URL: http://cds.linear.com/docs/en/datasheet/146263f.pdf; ComponentLink3Description: Package Specification; ComponentLink3URL: http://cds.linear.com/docs/en/packaging/05081510_I_N8.pdf
footprint LT-N8-8 (DIP, 8-Leads, Body 10.16x6.48mm, Pitch 2.54mm)
pins on every part: 4 V- (power), 8 V+ (power)
part A pins: 1 OUT A (out), 2 -IN A (in), 3 +IN A (in)
part B pins: 5 +IN B (in), 6 -IN B (in), 7 OUT B (out)

## LT1462ACS8
designator U?
Dual Channel, JFET Operational Amplifier with Excellent C-Load Stability, 0.175 MHz Typical GBW, 0.13 V/us Typical SR, 10 to 40 V, 8-Pin SOIC (S8-8), Commercial; Linear Technology Part Number: LT1462; Manufacturer: Linear Technology; PartNumber: LT1462ACS8; Channels (#): 2; GBW (MHz) Typical: 0.175; Is (mA) Typical: 0.028; SR (V/us) Typical: 0.13; Vos (mV) Typical: 0.4; Vs Max (V): 40; Vs Min (V): 10; DatasheetVersion: Rev. A; PackageVersion: Rev G; PackageReference: LT-S8-8; PackageDescription: 8-Pin Plastic Small Outline, Body 4.9 x 3.9 mm, Pitch 1.27 mm; Supplier 1: Digi-Key; Supplier Part Number 1: LT1462ACS8-ND; Type: JFET; Mounting Technology: Surface Mount; ComponentLink1Description: Manufacturer URL; ComponentLink1URL: http://www.linear.com/; ComponentLink2Description: Datasheet; ComponentLink2URL: http://cds.linear.com/docs/en/datasheet/146263f.pdf; ComponentLink3Description: Package Specification; ComponentLink3URL: http://cds.linear.com/docs/en/packaging/05081610_G_SO8.pdf
footprint LT-S8-8_N (SOIC, 8-Leads, Body 4.9x3.9mm, Pitch 1.27mm, IPC Medium Density)
footprint LT-S8-8_L (SOIC, 8-Leads, Body 4.9x3.9mm, Pitch 1.27mm, IPC High Density)
footprint LT-S8-8_M (SOIC, 8-Leads, Body 4.9x3.9mm, Pitch 1.27mm, IPC Low Density)
pins on every part: 4 V- (power), 8 V+ (power)
part A pins: 1 OUT A (out), 2 -IN A (in), 3 +IN A (in)
part B pins: 5 +IN B (in), 6 -IN B (in), 7 OUT B (out)

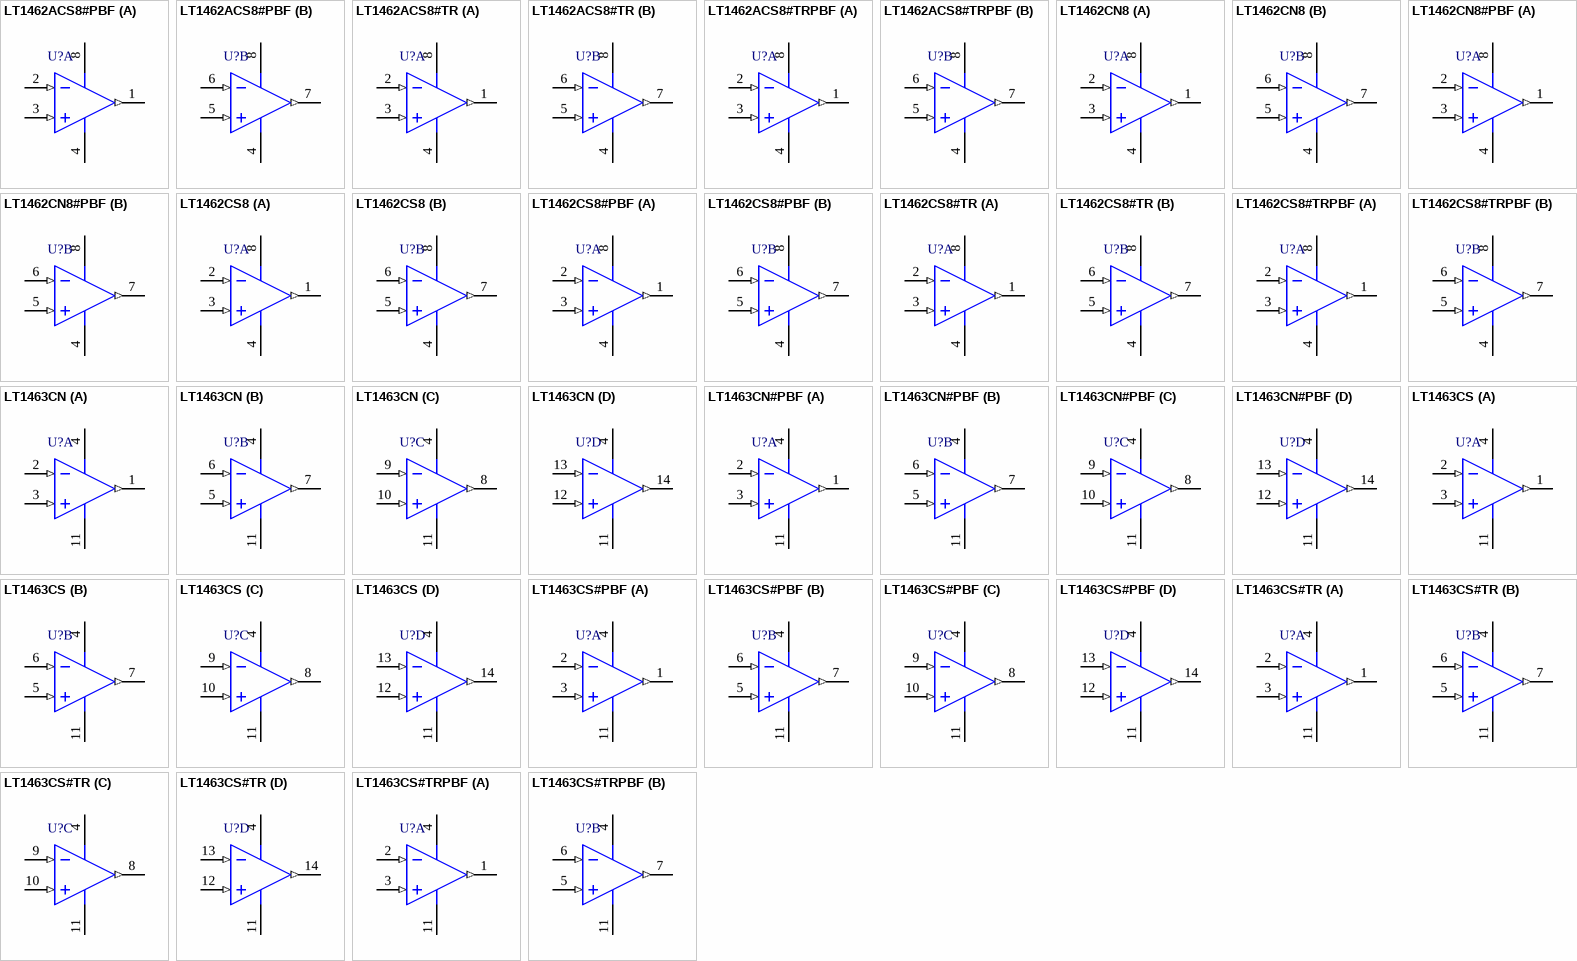
[diagram p39: symbols LT1462ACS8#PBF to LT1463CS#TRPBF]

## LT1462ACS8#PBF
designator U?
Dual Channel, JFET Operational Amplifier with Excellent C-Load Stability, 0.175 MHz Typical GBW, 0.13 V/us Typical SR, 10 to 40 V, 8-Pin SOIC (S8-8), Commercial, Pb-Free; Linear Technology Part Number: LT1462; Manufacturer: Linear Technology; PartNumber: LT1462ACS8#PBF; Channels (#): 2; GBW (MHz) Typical: 0.175; Is (mA) Typical: 0.028; SR (V/us) Typical: 0.13; Vos (mV) Typical: 0.4; Vs Max (V): 40; Vs Min (V): 10; DatasheetVersion: Rev. A; PackageVersion: Rev G; PackageReference: LT-S8-8; PackageDescription: 8-Pin Plastic Small Outline, Body 4.9 x 3.9 mm, Pitch 1.27 mm; Supplier 1: Digi-Key; Supplier Part Number 1: LT1462ACS8#PBF-ND; RoHS: Pb-Free; Type: JFET; Mounting Technology: Surface Mount; ComponentLink1Description: Manufacturer URL; ComponentLink1URL: http://www.linear.com/; ComponentLink2Description: Datasheet; ComponentLink2URL: http://cds.linear.com/docs/en/datasheet/146263f.pdf; ComponentLink3Description: Package Specification; ComponentLink3URL: http://cds.linear.com/docs/en/packaging/05081610_G_SO8.pdf
footprint LT-S8-8_N (SOIC, 8-Leads, Body 4.9x3.9mm, Pitch 1.27mm, IPC Medium Density)
footprint LT-S8-8_L (SOIC, 8-Leads, Body 4.9x3.9mm, Pitch 1.27mm, IPC High Density)
footprint LT-S8-8_M (SOIC, 8-Leads, Body 4.9x3.9mm, Pitch 1.27mm, IPC Low Density)
pins on every part: 4 V- (power), 8 V+ (power)
part A pins: 1 OUT A (out), 2 -IN A (in), 3 +IN A (in)
part B pins: 5 +IN B (in), 6 -IN B (in), 7 OUT B (out)

## LT1462ACS8#TR
designator U?
Dual Channel, JFET Operational Amplifier with Excellent C-Load Stability, 0.175 MHz Typical GBW, 0.13 V/us Typical SR, 10 to 40 V, 8-Pin SOIC (S8-8), Commercial, Reel; Linear Technology Part Number: LT1462; Manufacturer: Linear Technology; PartNumber: LT1462ACS8#TR; Channels (#): 2; GBW (MHz) Typical: 0.175; Is (mA) Typical: 0.028; SR (V/us) Typical: 0.13; Vos (mV) Typical: 0.4; Vs Max (V): 40; Vs Min (V): 10; DatasheetVersion: Rev. A; PackageVersion: Rev G; PackageReference: LT-S8-8; PackageDescription: 8-Pin Plastic Small Outline, Body 4.9 x 3.9 mm, Pitch 1.27 mm; Supplier 1: Digi-Key; Supplier Part Number 1: LT1462ACS8#TR-ND; Packing: Reel; Type: JFET; Mounting Technology: Surface Mount; ComponentLink1Description: Manufacturer URL; ComponentLink1URL: http://www.linear.com/; ComponentLink2Description: Datasheet; ComponentLink2URL: http://cds.linear.com/docs/en/datasheet/146263f.pdf; ComponentLink3Description: Package Specification; ComponentLink3URL: http://cds.linear.com/docs/en/packaging/05081610_G_SO8.pdf
footprint LT-S8-8_N (SOIC, 8-Leads, Body 4.9x3.9mm, Pitch 1.27mm, IPC Medium Density)
footprint LT-S8-8_L (SOIC, 8-Leads, Body 4.9x3.9mm, Pitch 1.27mm, IPC High Density)
footprint LT-S8-8_M (SOIC, 8-Leads, Body 4.9x3.9mm, Pitch 1.27mm, IPC Low Density)
pins on every part: 4 V- (power), 8 V+ (power)
part A pins: 1 OUT A (out), 2 -IN A (in), 3 +IN A (in)
part B pins: 5 +IN B (in), 6 -IN B (in), 7 OUT B (out)

## LT1462ACS8#TRPBF
designator U?
Dual Channel, JFET Operational Amplifier with Excellent C-Load Stability, 0.175 MHz Typical GBW, 0.13 V/us Typical SR, 10 to 40 V, 8-Pin SOIC (S8-8), Commercial, Pb-Free, Reel; Linear Technology Part Number: LT1462; Manufacturer: Linear Technology; PartNumber: LT1462ACS8#TRPBF; Channels (#): 2; GBW (MHz) Typical: 0.175; Is (mA) Typical: 0.028; SR (V/us) Typical: 0.13; Vos (mV) Typical: 0.4; Vs Max (V): 40; Vs Min (V): 10; DatasheetVersion: Rev. A; PackageVersion: Rev G; PackageReference: LT-S8-8; PackageDescription: 8-Pin Plastic Small Outline, Body 4.9 x 3.9 mm, Pitch 1.27 mm; Supplier 1: Digi-Key; Supplier Part Number 1: LT1462ACS8#TRPBF-ND; Packing: Reel; RoHS: Pb-Free; Type: JFET; Mounting Technology: Surface Mount; ComponentLink1Description: Manufacturer URL; ComponentLink1URL: http://www.linear.com/; ComponentLink2Description: Datasheet; ComponentLink2URL: http://cds.linear.com/docs/en/datasheet/146263f.pdf; ComponentLink3Description: Package Specification; ComponentLink3URL: http://cds.linear.com/docs/en/packaging/05081610_G_SO8.pdf
footprint LT-S8-8_N (SOIC, 8-Leads, Body 4.9x3.9mm, Pitch 1.27mm, IPC Medium Density)
footprint LT-S8-8_L (SOIC, 8-Leads, Body 4.9x3.9mm, Pitch 1.27mm, IPC High Density)
footprint LT-S8-8_M (SOIC, 8-Leads, Body 4.9x3.9mm, Pitch 1.27mm, IPC Low Density)
pins on every part: 4 V- (power), 8 V+ (power)
part A pins: 1 OUT A (out), 2 -IN A (in), 3 +IN A (in)
part B pins: 5 +IN B (in), 6 -IN B (in), 7 OUT B (out)

## LT1462CN8
designator U?
Dual Channel, JFET Operational Amplifier with Excellent C-load Stability, 0.175 MHz Typical GBW, 0.13 V/us Typical SR, 10 to 40 V, 8-Pin DIP (N8-8), Commercial; Linear Technology Part Number: LT1462; Manufacturer: Linear Technology; PartNumber: LT1462CN8; Channels (#): 2; GBW (MHz) Typical: 0.175; Is (mA) Typical: 0.028; SR (V/us) Typical: 0.13; Vos (mV) Typical: 0.4; Vs Max (V): 40; Vs Min (V): 10; DatasheetVersion: Rev. A; PackageVersion: Rev I; PackageReference: LT-N8-8; PackageDescription: 8-Lead PDIP, Body 10.16 x 6.48 mm, Pitch 2.54 mm; Supplier 1: Digi-Key; Supplier Part Number 1: LT1462CN8-ND; Type: JFET; Mounting Technology: Surface Mount; ComponentLink1Description: Manufacturer URL; ComponentLink1URL: http://www.linear.com/; ComponentLink2Description: Datasheet; ComponentLink2URL: http://cds.linear.com/docs/en/datasheet/146263f.pdf; ComponentLink3Description: Package Specification; ComponentLink3URL: http://cds.linear.com/docs/en/packaging/05081510_I_N8.pdf
footprint LT-N8-8 (DIP, 8-Leads, Body 10.16x6.48mm, Pitch 2.54mm)
pins on every part: 4 V- (power), 8 V+ (power)
part A pins: 1 OUT A (out), 2 -IN A (in), 3 +IN A (in)
part B pins: 5 +IN B (in), 6 -IN B (in), 7 OUT B (out)

## LT1462CN8#PBF
designator U?
Dual Channel, JFET Operational Amplifier with Excellent C-load Stability, 0.175 MHz Typical GBW, 0.13 V/us Typical SR, 10 to 40 V, 8-Pin DIP (N8-8), Commercial, Pb-Free; Linear Technology Part Number: LT1462; Manufacturer: Linear Technology; PartNumber: LT1462CN8#PBF; Channels (#): 2; GBW (MHz) Typical: 0.175; Is (mA) Typical: 0.028; SR (V/us) Typical: 0.13; Vos (mV) Typical: 0.4; Vs Max (V): 40; Vs Min (V): 10; DatasheetVersion: Rev. A; PackageVersion: Rev I; PackageReference: LT-N8-8; PackageDescription: 8-Lead PDIP, Body 10.16 x 6.48 mm, Pitch 2.54 mm; Supplier 1: Digi-Key; Supplier Part Number 1: LT1462CN8#PBF-ND; RoHS: Pb-Free; Type: JFET; Mounting Technology: Through Hole; ComponentLink1Description: Manufacturer URL; ComponentLink1URL: http://www.linear.com/; ComponentLink2Description: Datasheet; ComponentLink2URL: http://cds.linear.com/docs/en/datasheet/146263f.pdf; ComponentLink3Description: Package Specification; ComponentLink3URL: http://cds.linear.com/docs/en/packaging/05081510_I_N8.pdf
footprint LT-N8-8 (DIP, 8-Leads, Body 10.16x6.48mm, Pitch 2.54mm)
pins on every part: 4 V- (power), 8 V+ (power)
part A pins: 1 OUT A (out), 2 -IN A (in), 3 +IN A (in)
part B pins: 5 +IN B (in), 6 -IN B (in), 7 OUT B (out)

## LT1462CS8
designator U?
Dual Channel, JFET Operational Amplifier with Excellent C-Load Stability, 0.175 MHz Typical GBW, 0.13 V/us Typical SR, 10 to 40 V, 8-Pin SOIC (S8-8), Commercial; Linear Technology Part Number: LT1462; Manufacturer: Linear Technology; PartNumber: LT1462CS8; Channels (#): 2; GBW (MHz) Typical: 0.175; Is (mA) Typical: 0.028; SR (V/us) Typical: 0.13; Vos (mV) Typical: 0.4; Vs Max (V): 40; Vs Min (V): 10; DatasheetVersion: Rev. A; PackageVersion: Rev G; PackageReference: LT-S8-8; PackageDescription: 8-Pin Plastic Small Outline, Body 4.9 x 3.9 mm, Pitch 1.27 mm; Supplier 1: Digi-Key; Supplier Part Number 1: LT1462CS8-ND; Type: JFET; Mounting Technology: Surface Mount; ComponentLink1Description: Manufacturer URL; ComponentLink1URL: http://www.linear.com/; ComponentLink2Description: Datasheet; ComponentLink2URL: http://cds.linear.com/docs/en/datasheet/146263f.pdf; ComponentLink3Description: Package Specification; ComponentLink3URL: http://cds.linear.com/docs/en/packaging/05081610_G_SO8.pdf
footprint LT-S8-8_N (SOIC, 8-Leads, Body 4.9x3.9mm, Pitch 1.27mm, IPC Medium Density)
footprint LT-S8-8_L (SOIC, 8-Leads, Body 4.9x3.9mm, Pitch 1.27mm, IPC High Density)
footprint LT-S8-8_M (SOIC, 8-Leads, Body 4.9x3.9mm, Pitch 1.27mm, IPC Low Density)
pins on every part: 4 V- (power), 8 V+ (power)
part A pins: 1 OUT A (out), 2 -IN A (in), 3 +IN A (in)
part B pins: 5 +IN B (in), 6 -IN B (in), 7 OUT B (out)

## LT1462CS8#PBF
designator U?
Dual Channel, JFET Operational Amplifier with Excellent C-Load Stability, 0.175 MHz Typical GBW, 0.13 V/us Typical SR, 10 to 40 V, 8-Pin SOIC (S8-8), Commercial, Pb-Free; Linear Technology Part Number: LT1462; Manufacturer: Linear Technology; PartNumber: LT1462CS8#PBF; Channels (#): 2; GBW (MHz) Typical: 0.175; Is (mA) Typical: 0.028; SR (V/us) Typical: 0.13; Vos (mV) Typical: 0.4; Vs Max (V): 40; Vs Min (V): 10; DatasheetVersion: Rev. A; PackageVersion: Rev G; PackageReference: LT-S8-8; PackageDescription: 8-Pin Plastic Small Outline, Body 4.9 x 3.9 mm, Pitch 1.27 mm; Supplier 1: Digi-Key; Supplier Part Number 1: LT1462CS8#PBF-ND; Supplier 2: Farnell; Supplier Part Number 2: 1330655; Supplier 3: Newark; Supplier Part Number 3: 57M4338; RoHS: Pb-Free; Type: JFET; Mounting Technology: Surface Mount; ComponentLink1Description: Manufacturer URL; ComponentLink1URL: http://www.linear.com/; ComponentLink2Description: Datasheet; ComponentLink2URL: http://cds.linear.com/docs/en/datasheet/146263f.pdf; ComponentLink3Description: Package Specification; ComponentLink3URL: http://cds.linear.com/docs/en/packaging/05081610_G_SO8.pdf
footprint LT-S8-8_N (SOIC, 8-Leads, Body 4.9x3.9mm, Pitch 1.27mm, IPC Medium Density)
footprint LT-S8-8_L (SOIC, 8-Leads, Body 4.9x3.9mm, Pitch 1.27mm, IPC High Density)
footprint LT-S8-8_M (SOIC, 8-Leads, Body 4.9x3.9mm, Pitch 1.27mm, IPC Low Density)
pins on every part: 4 V- (power), 8 V+ (power)
part A pins: 1 OUT A (out), 2 -IN A (in), 3 +IN A (in)
part B pins: 5 +IN B (in), 6 -IN B (in), 7 OUT B (out)

## LT1462CS8#TR
designator U?
Dual Channel, JFET Operational Amplifier with Excellent C-Load Stability, 0.175 MHz Typical GBW, 0.13 V/us Typical SR, 10 to 40 V, 8-Pin SOIC (S8-8), Commercial, Reel; Linear Technology Part Number: LT1462; Manufacturer: Linear Technology; PartNumber: LT1462CS8#TR; Channels (#): 2; GBW (MHz) Typical: 0.175; Is (mA) Typical: 0.028; SR (V/us) Typical: 0.13; Vos (mV) Typical: 0.4; Vs Max (V): 40; Vs Min (V): 10; DatasheetVersion: Rev. A; PackageVersion: Rev G; PackageReference: LT-S8-8; PackageDescription: 8-Pin Plastic Small Outline, Body 4.9 x 3.9 mm, Pitch 1.27 mm; Supplier 1: Digi-Key; Supplier Part Number 1: LT1462CS8#TR-ND; Packing: Reel; Type: JFET; Mounting Technology: Surface Mount; ComponentLink1Description: Manufacturer URL; ComponentLink1URL: http://www.linear.com/; ComponentLink2Description: Datasheet; ComponentLink2URL: http://cds.linear.com/docs/en/datasheet/146263f.pdf; ComponentLink3Description: Package Specification; ComponentLink3URL: http://cds.linear.com/docs/en/packaging/05081610_G_SO8.pdf
footprint LT-S8-8_N (SOIC, 8-Leads, Body 4.9x3.9mm, Pitch 1.27mm, IPC Medium Density)
footprint LT-S8-8_L (SOIC, 8-Leads, Body 4.9x3.9mm, Pitch 1.27mm, IPC High Density)
footprint LT-S8-8_M (SOIC, 8-Leads, Body 4.9x3.9mm, Pitch 1.27mm, IPC Low Density)
pins on every part: 4 V- (power), 8 V+ (power)
part A pins: 1 OUT A (out), 2 -IN A (in), 3 +IN A (in)
part B pins: 5 +IN B (in), 6 -IN B (in), 7 OUT B (out)

## LT1462CS8#TRPBF
designator U?
Dual Channel, JFET Operational Amplifier with Excellent C-Load Stability, 0.175 MHz Typical GBW, 0.13 V/us Typical SR, 10 to 40 V, 8-Pin SOIC (S8-8), Commercial, Pb-Free, Reel; Linear Technology Part Number: LT1462; Manufacturer: Linear Technology; PartNumber: LT1462CS8#TRPBF; Channels (#): 2; GBW (MHz) Typical: 0.175; Is (mA) Typical: 0.028; SR (V/us) Typical: 0.13; Vos (mV) Typical: 0.4; Vs Max (V): 40; Vs Min (V): 10; DatasheetVersion: Rev. A; PackageVersion: Rev G; PackageReference: LT-S8-8; PackageDescription: 8-Pin Plastic Small Outline, Body 4.9 x 3.9 mm, Pitch 1.27 mm; Supplier 1: Digi-Key; Supplier Part Number 1: LT1462CS8#TRPBF-ND; Packing: Reel; RoHS: Pb-Free; Type: JFET; Mounting Technology: Surface Mount; ComponentLink1Description: Manufacturer URL; ComponentLink1URL: http://www.linear.com/; ComponentLink2Description: Datasheet; ComponentLink2URL: http://cds.linear.com/docs/en/datasheet/146263f.pdf; ComponentLink3Description: Package Specification; ComponentLink3URL: http://cds.linear.com/docs/en/packaging/05081610_G_SO8.pdf
footprint LT-S8-8_N (SOIC, 8-Leads, Body 4.9x3.9mm, Pitch 1.27mm, IPC Medium Density)
footprint LT-S8-8_L (SOIC, 8-Leads, Body 4.9x3.9mm, Pitch 1.27mm, IPC High Density)
footprint LT-S8-8_M (SOIC, 8-Leads, Body 4.9x3.9mm, Pitch 1.27mm, IPC Low Density)
pins on every part: 4 V- (power), 8 V+ (power)
part A pins: 1 OUT A (out), 2 -IN A (in), 3 +IN A (in)
part B pins: 5 +IN B (in), 6 -IN B (in), 7 OUT B (out)